# Altium schematic symbol library BOARDFEATURES.SchLib: 2 symbols
Pins are listed as number, name and electrical type; pins without a type are passive.

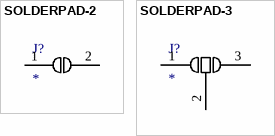
[diagram p0: symbols SOLDERPAD-2 to SOLDERPAD-3]

## SOLDERPAD-2
designator J?  (no BOM)
footprint SOLDERPAD-2
pins: 1, 2

## SOLDERPAD-3
designator J?  (no BOM)
footprint SOLDERPAD-3
pins: 1, 2, 3